# Altium schematic symbol library Transceivers.SchLib: 5 symbols
Pins are listed as number, name and electrical type; pins without a type are passive.

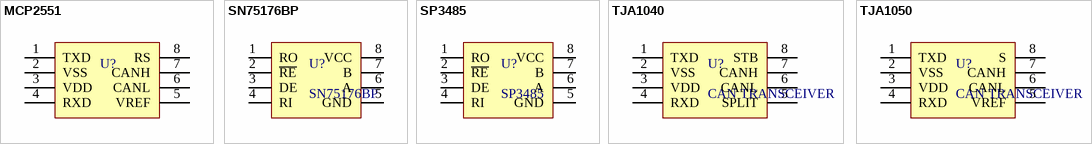
[diagram p0: symbols MCP2551 to TJA1050]

## MCP2551
designator U?  (value not drawn)
CAN transceiver
footprint SOP-8
pins: 1 TXD, 2 VSS, 3 VDD, 4 RXD, 5 VREF, 6 CANL, 7 CANH, 8 RS

## SN75176BP
designator U?
RS485 transceiver
footprint DIP-8
pins: 1 RO, 2 ~{RE}, 3 DE, 4 RI, 5 GND, 6 A, 7 B, 8 VCC

## SP3485
designator U?
RS485 transceiver
footprint SOP-8
pins: 1 RO, 2 ~{RE}, 3 DE, 4 RI, 5 GND, 6 A, 7 B, 8 VCC

## TJA1040
designator U?, comment CAN TRANSCEIVER
footprint SOP-8
pins: 1 TXD, 2 VSS, 3 VDD, 4 RXD, 5 SPLIT, 6 CANL, 7 CANH, 8 STB

## TJA1050
designator U?, comment CAN TRANSCEIVER
footprint SOP-8
pins: 1 TXD, 2 VSS, 3 VDD, 4 RXD, 5 VREF, 6 CANL, 7 CANH, 8 S